# Altium schematic symbol library CONN(2.54mm, 2x17, 34-POS, DUAL-EDGE).SchLib: 1 symbol
Pins are listed as number, name and electrical type; pins without a type are passive.

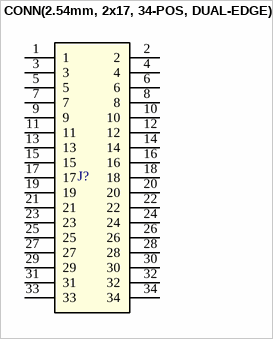
[diagram p0: symbol CONN(2.54mm, 2x17, 34-POS, DUAL-EDGE)]

## CONN(2.54mm, 2x17, 34-POS, DUAL-EDGE)
designator J?  (value not drawn)
Manufacturer: TE Connectivit; Manufacturer_PN: 5-5530843-3; Datasheet: https://www.te.com/commerce/DocumentDelivery/DDEController?Action=srchrtrv&DocNm=1773096_SEC03_CARD_EDGE&DocType=CS&DocLang=English; Digikey_Link: https://www.digikey.it/en/products/detail/te-connectivity-amp-connectors/5-5530843-3/2188154?s=N4IgTCBcDaIKwFo5wMwAYAcAWFCUgF0BfIA
footprint TE_5-5530843-3
pins: 1, 2, 3, 4, 5, 6, 7, 8, 9, 10, 11, 12, 13, 14, 15, 16, 17, 18, 19, 20, 21, 22, 23, 24, 25, 26, 27, 28, 29, 30, 31, 32, 33, 34